# EAGLE library part SENSOR_BOARD_GEN (library sensors)
Header 4 Standard 4-pin 0.1" header. Use with straight break away headers (SKU : PRT-00116), right angle break away headers (PRT-00553), swiss pins (PRT-00743), machine pins (PRT-00117), and female headers (PRT-00115). Molex polarized connector foot print use with SKU : PRT-08231 with associated crimp pins and housings. 1MM SMD Version SKU: PRT-10208
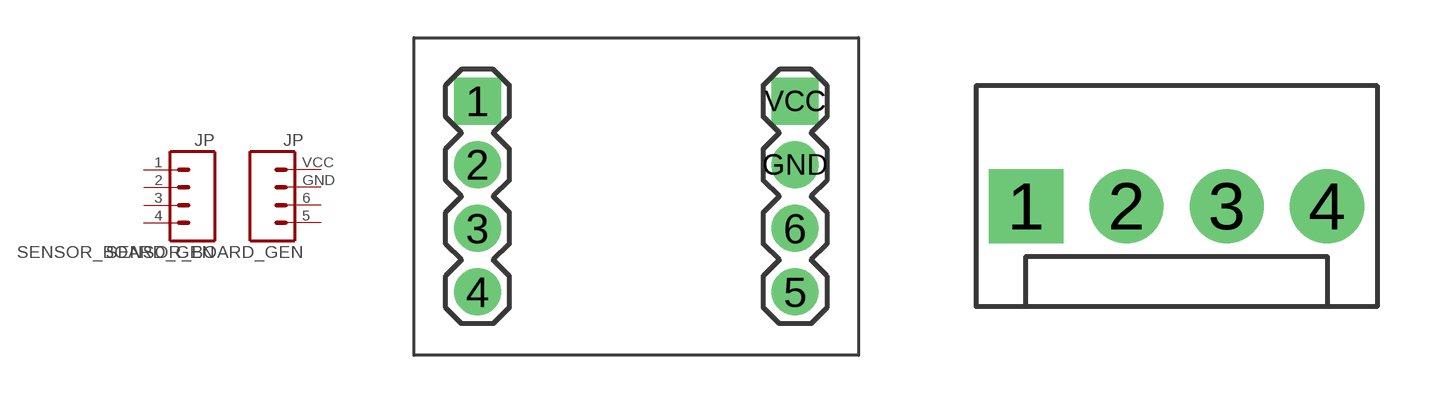
[diagram p4: symbol with the pads of SENSOR_BOARD_GEN; footprints SENSOR_BOARD_GEN, MOLEX-1X4]

Designator prefix JP

## SENSOR_BOARD_GENPTH  [SENSOR_BOARD_GEN]
1  1  pas
2  2  pas
3  3  pas
4  4  pas
5  5  pas
6  6  pas
GND  GND  pas
VCC  VCC  pas

## SENSOR_BOARD_GENPOLAR  [MOLEX-1X4]
1  4  pas
2  3  pas
3  2  pas
4  1  pas

## SENSOR_BOARD_GENSCREW  [SCREWTERMINAL-3.5MM-4]
Pads as for MOLEX-1X4

## SENSOR_BOARD_GEN1.27MM  [1X04-1.27MM]
Pads as for MOLEX-1X4

## SENSOR_BOARD_GENLOCK  [1X04_LOCK]
Pads as for MOLEX-1X4

## SENSOR_BOARD_GENLOCK_LONGPADS  [1X04_LOCK_LONGPADS]
Pads as for MOLEX-1X4

## SENSOR_BOARD_GENPOLAR_LOCK  [MOLEX-1X4_LOCK]
Pads as for MOLEX-1X4

## SENSOR_BOARD_GENSMD  [1X04-SMD]
Pads as for MOLEX-1X4

## SENSOR_BOARD_GENLONGPADS  [1X04_LONGPADS]
Pads as for MOLEX-1X4

## SENSOR_BOARD_GEN1X04_NO_SILK  [1X04_NO_SILK]
Pads as for MOLEX-1X4

## SENSOR_BOARD_GENJST-PTH (SKU: PRT-09916)  [JST-4-PTH]
Pads as for MOLEX-1X4

## SENSOR_BOARD_GENSCREW_LOCK  [SCREWTERMINAL-3.5MM-4_LOCK]
Pads as for MOLEX-1X4

## SENSOR_BOARD_GENSMD2  [1X04-1MM-RA]
Pads as for MOLEX-1X4

## SENSOR_BOARD_GENSMD_STRAIGHT_COMBO (PROD_ID: CONN-08511; VALUE: 1X04_SMD_STRAIGHT_COMBO)  [1X04_SMD_STRAIGHT_COMBO]
Pads as for MOLEX-1X4

## SENSOR_BOARD_GENSMD_LONG  [1X04-SMD_LONG]
Pads as for MOLEX-1X4

## SENSOR_BOARD_GENJST-PTH-VERT  [JST-4-PTH-VERT]
Pads as for MOLEX-1X4

## SENSOR_BOARD_GENSMD_RA_FEMALE  [1X04_SMD_RA_FEMALE]
Pads as for MOLEX-1X4

## SENSOR_BOARD_GENJST  [1X04-1.5MM_JST]
Pads as for MOLEX-1X4

## SENSOR_BOARD_GEN  [SENSOR_BOARD_GEN]
Pads as for SENSOR_BOARD_GEN

## Footprint SENSOR_BOARD_GEN (pad centres in mm)
drill 1.016 pad 1.88 square: 1 2.54,10.16; VCC 15.24,10.16
drill 1.016 pad 1.88: 2 2.54,7.62; 3 2.54,5.08; 4 2.54,2.54; 5 15.24,2.54; 6 15.24,5.08; GND 15.24,7.62

## Footprint MOLEX-1X4 (pad centres in mm)
drill 1.016 pad 1.88 square: 1 0,0
drill 1.016 pad 1.88: 2 2.54,0; 3 5.08,0; 4 7.62,0

## Footprint SCREWTERMINAL-3.5MM-4 (pad centres in mm)
drill 1.2 pad 2.032 square: 1 0,0
drill 1.2 pad 2.032: 2 3.5,0; 3 7,0; 4 10.5,0

## Footprint 1X04-1.27MM (pad centres in mm)
drill 0.508 pad 1: 1 0,0; 2 1.27,0; 3 2.54,0; 4 3.81,0

## Footprint 1X04_LOCK (pad centres in mm)
drill 1.016 pad 1.88 square: 1 0,0.127
drill 1.016 pad 1.88: 2 2.54,-0.127; 3 5.08,0.127; 4 7.62,-0.127

## Footprint 1X04_LOCK_LONGPADS (pad centres in mm)
This footprint was designed to help hold the alignment of a through-hole component (i.e. 6-pin header) while soldering it into place. You may notice that each hole has been shifted either up or down by 0.005 of an inch from it's more standard position (which is a perfectly straight line). This slight alteration caused the pins (the squares in the middle) to touch the edges of the holes. Because they are alternating, it causes a "brace" to hold the component in place. 0.005 has proven to be the perfect amount of "off-center" position when using our standard breakaway headers. Although looks a little odd when you look at the bare footprint, once you have a header in there, the alteration is very hard to notice. Also, if you push a header all the way into place, it is covered up entirely on the bottom side. This idea of altering the position of holes to aid alignment will be further integrated into the Sparkfun Library for other footprints. It can help hold any component with 3 or more connection pins.
drill 1.016 long: 1 0,0; 2 2.54,-0.254; 3 5.08,0; 4 7.62,-0.254

## Footprint MOLEX-1X4_LOCK (pad centres in mm)
drill 1.016 pad 1.88 square: 1 0,0.127
drill 1.016 pad 1.88: 2 2.54,-0.127; 3 5.08,0.127; 4 7.62,-0.127

## Footprint 1X04-SMD (pad centres in mm)
smd 1 x 3: 1 -3.81,5; 2 -1.27,5; 3 1.27,5; 4 3.81,5
hole 1.4 at -2.54,0
hole 1.4 at 2.54,0

## Footprint 1X04_LONGPADS (pad centres in mm)
drill 1.118 pad 1.88 long: 1 0,0; 2 2.54,0; 3 5.08,0; 4 7.62,0

## Footprint 1X04_NO_SILK (pad centres in mm)
drill 1.016 pad 1.88 square: 1 0,0
drill 1.016 pad 1.88: 2 2.54,0; 3 5.08,0; 4 7.62,0

## Footprint JST-4-PTH (pad centres in mm)
drill 0.7 pad 1.6: 1 -3,0; 2 -1,0; 3 1,0; 4 3,0

## Footprint SCREWTERMINAL-3.5MM-4_LOCK (pad centres in mm)
drill 1.2 pad 2.032 square: 1 -0.178,0
drill 1.2 pad 2.032: 2 3.678,0; 3 6.822,0; 4 10.678,0

## Footprint 1X04-1MM-RA (pad centres in mm)
smd 0.6 x 1.35: 1 -1.5,0; 2 -0.5,0; 3 0.5,0; 4 1.5,0
smd 1.2 x 2: NC1 2.8,-3.675; NC2 -2.8,-3.675

## Footprint 1X04_SMD_STRAIGHT_COMBO (pad centres in mm)
smd 1 x 2: 1 0,-1.65; 1-2 0,1.65; 2 2.54,1.65; 2-2 2.54,-1.65; 3 5.08,-1.65; 3-2 5.08,1.65; 4 7.62,1.65; 4-2 7.62,-1.65

## Footprint 1X04-SMD_LONG (pad centres in mm)
smd 1 x 4: 1 -3.81,5.5; 2 -1.27,5.5; 3 1.27,5.5; 4 3.81,5.5
hole 1.4 at -2.54,0
hole 1.4 at 2.54,0

## Footprint JST-4-PTH-VERT (pad centres in mm)
drill 0.7 pad 1.6: 1 -3,-0.55; 2 -1,-0.55; 3 1,-0.55; 4 3,-0.55

## Footprint 1X04_SMD_RA_FEMALE (pad centres in mm)
smd 1.25 x 3: 1 -3.81,7.225; 2 -1.27,7.225; 3 1.27,7.225; 4 3.81,7.225

## Footprint 1X04-1.5MM_JST (pad centres in mm)
drill 0.7: 1 0,0; 2 1.5,0; 3 3,0; 4 4.5,0